# Altium footprint library 野火_EBF6ULL S1 Pro 底板_V1.0_PCB封装_AD格式.PcbLib: 74 footprints (part 1 of 5)
Each footprint in its own frame and in the unit in brackets; x right, y up, seen from the top. Pads: shape width x height; smd on the part's side, far side on the other; paste and mask are expansions set on the pad; w line width, h text height; cw(c..) or ccw(c..) is an arc to the next point about the centre after c.
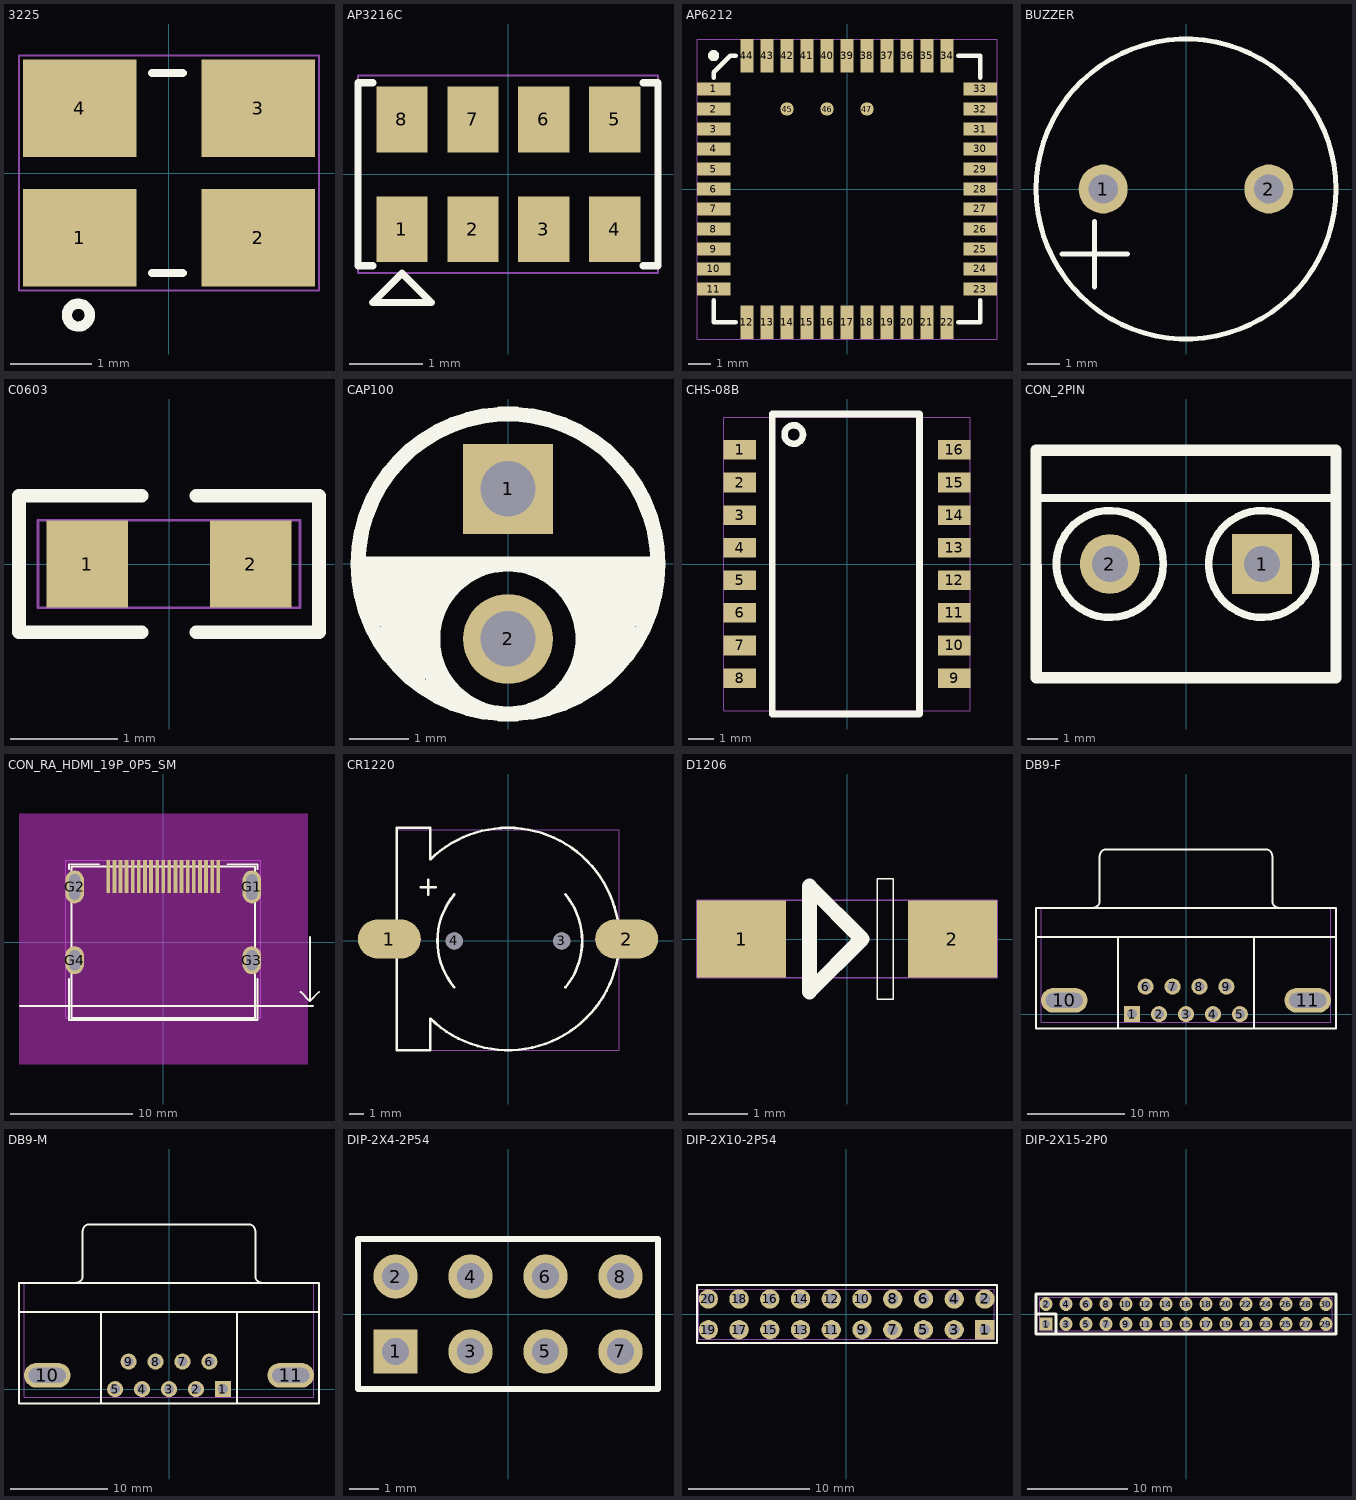
[diagram p0: the footprints below, top view; thin cyan lines are the x and y axes]

## 3225 [mil]
pads (4):
  rect 55.12x47.24 smd mask+1.97: 1(-43.3,-31.5) 2(43.31,-31.5) 3(43.31,31.49) 4(-43.3,31.49)
Top Overlay:
  circle w5: c-44,-69 r5.57
  lines w3.94: -8.3,-48.51 6.7,-48.51 ; -8.3,48.51 6.7,48.51
Top Assembly:
  text "Y2" at -38.93,-25 h50
Mechanical 20:
  lines w1: -72.83,-57.09 72.84,-57.09 72.84,57.08 -72.83,57.08 -72.83,-57.09

## AP3216C [mil]
pads (8):
  rect 27.56x35.43 smd mask+0.98: 1(-57.28,-29.53) 2(-19.09,-29.53) 3(19.09,-29.53) 4(57.28,-29.53) 5(57.28,29.53) 6(19.09,29.53) 7(-19.09,29.53) 8(-57.28,29.53)
Top Overlay:
  lines w3.94: -73.03,-49.21 -80.91,-49.21 -80.91,49.21 -73.03,49.21 ; 72.64,-49.21 80.51,-49.21 80.51,49.21 72.64,49.21 ; -73.03,-68.9 -57.28,-53.15 -41.54,-68.9 -73.03,-68.9
Top Assembly:
  text "U15" at 58.56,25 h50
Mechanical 20:
  lines w1: -80.91,-53.15 -80.91,53.15 80.51,53.15 80.51,-53.15 -80.91,-53.15

## AP6212 [mm]
pads (47):
  rect 1.5x0.6 smd mask+0.05: 1(-6,4.5) 2(-6,3.6) 3(-6,2.7) 4(-6,1.8) 5(-6,0.9) 6(-6,0) 7(-6,-0.9) 8(-6,-1.8) 9(-6,-2.7) 10(-6,-3.6) 11(-6,-4.5) 23(6,-4.5) 24(6,-3.6) 25(6,-2.7) 26(6,-1.8) 27(6,-0.9) 28(6,0) 29(6,0.9) 30(6,1.8) 31(6,2.7) 32(6,3.6) 33(6,4.5)
  rect 0.6x1.5 smd mask+0.05: 12(-4.5,-6) 13(-3.6,-6) 14(-2.7,-6) 15(-1.8,-6) 16(-0.9,-6) 17(0,-6) 18(0.9,-6) 19(1.8,-6) 20(2.7,-6) 21(3.6,-6) 22(4.5,-6) 34(4.5,6) 35(3.6,6) 36(2.7,6) 37(1.8,6) 38(0.9,6) 39(0,6) 40(-0.9,6) 41(-1.8,6) 42(-2.7,6) 43(-3.6,6) 44(-4.5,6)
  round 0.6 smd mask+0.05: 45(-2.7,3.6) 46(-0.9,3.6) 47(0.9,3.6)
Top Overlay:
  circle w0.25: c-6,6 r0.125
  lines w0.2: -6,-5 -6,-6 -5,-6 ; -6,5 -6,5.25 -5.25,6 -5,6 ; 5,-6 6,-6 6,-5 ; 5,6 6,6 6,5
Top Assembly:
  text "U5" at 1.022,0.635 h1.27
Mechanical 20:
  lines w0.025: -6.75,-6.75 -6.75,6.75 6.75,6.75 6.75,-6.75 -6.75,-6.75

## BUZZER [mil]
pads (2):
  round 59.06 hole 35.43 mask+2: 1(-100,0) 2(100,0)
Top Overlay:
  circle w6: c0,0 r181.1
  lines w6: -149.61,-78.74 -70.87,-78.74 ; -110.24,-118.11 -110.24,-39.37
Top Assembly:
  text "PZ1" at 50.47,25 h50
Mechanical 20:
  circle w1: c0,0 r181.1

## C0603 [mil]
pads (2):
  rect 30x32 smd mask+2.5: 1(-30,0) 2(30,0)
Top Overlay:
  lines w5: -10,-25 -55,-25 -55,25 -10,25 ; 10,-25 55,-25 55,25 10,25
Top Assembly:
  text "C99" at -62.61,-25 h50
Mechanical 20:
  lines w1: -48,-16 48,-16 48,16 -48,16 -48,-16

## CAP100 [mil]
pads (2):
  rect 60x60 hole 37 mask+2: 1(0,50)
  round 60 hole 37 mask+2: 2(0,-50)
Top Overlay:
  circle w10: c0,0 r100
  lines w10: -100,0 100,0 ; -90,-40 -90,0 ; -80,-60 -80,-5 ; -70,-70 -70,-5 ; -60,-75 -60,-5 ; -50,-85 -50,0 ; -45,-85 -45,-80 ; -40,-20 -40,0 ; -30,-10 -30,0 ; 35,-10 35,-5 ; 40,-20 40,-5 ; 45,-85 45,-80 ; 50,-85 50,-5 ; 60,-80 60,-5 ; 70,-70 70,-5 ; 80,-60 80,-5 ; 90,-40 90,-5 ; 0,-100 cw(c-0.26,-50) 0,0 cw(c0,-50) 0,-100
Top Assembly:
  text "C97" at -63.8,-25 h50
Mechanical 20:
  circle w1: c0,0 r100

## CHS-08B [mil]
pads (16):
  rect 50x30 smd mask+2.5: 1(-164.37,175) 2(-164.37,125) 3(-164.37,75) 4(-164.37,25) 5(-164.37,-25) 6(-164.37,-75) 7(-164.37,-125) 8(-164.37,-175) 9(164.37,-175) 10(164.37,-125) 11(164.37,-75) 12(164.37,-25) 13(164.37,25) 14(164.37,75) 15(164.37,125) 16(164.37,175)
Top Overlay:
  circle w10: c-81.69,198.62 r14.19
  lines w10: -114.37,-230.12 111.22,-230.12 111.22,230.12 -114.37,230.12 -114.37,-230.12
Top Assembly:
  text "SW5" at -67.73,-25 h50
Mechanical 20:
  lines w1: -189.37,-225 189.37,-225 189.37,225 -189.37,225 -189.37,-225

## CON_2PIN [mm]
pads (2):
  rect 2x2 hole 1.2 mask+0.051: 1(2.54,0)
  round 2 hole 1.2 mask+0.051: 2(-2.54,0)
Top Overlay:
  circle w0.254: c2.54,0 r1.783
  circle w0.254: c-2.54,0 r1.783
  lines w0.254: -5.004,2.2 5.004,2.2
  lines w0.381: -5.004,3.8 5.004,3.8 5.004,-3.8 -5,-3.8 -5.004,3.8
Top Assembly:
  text "J6" at -0.859,-0.635 h1.27
Mechanical 20:
  lines w0.025: -5.004,-3.8 -5.004,3.8 5.004,3.8 5.004,-3.8 -5.004,-3.8

## CON_RA_HDMI_19P_0P5_SM [mil]
pads (23):
  rect 12x106 smd mask+2: 1(177.17,211.61) 2(157.48,211.61) 3(137.8,211.61) 4(118.11,211.61) 5(98.43,211.61) 6(78.74,211.61) 7(59.06,211.61) 8(39.37,211.61) 9(19.69,211.61) 10(0,211.61) 11(-19.69,211.61) 12(-39.37,211.61) 13(-59.06,211.61) 14(-78.74,211.61) 15(-98.43,211.61) 16(-118.11,211.61) 17(-137.8,211.61) 18(-157.48,211.61) 19(-177.17,211.61)
  oval 59x106 hole 35 slot 83 at 90 deg mask+2: G1(285.43,178.15) G2(-285.43,178.15)
  oval 59x90 hole 35 slot 66 at 90 deg mask+2: G3(285.43,-58.07) G4(-285.43,-58.07)
Top Layer keep-out:
  region: -464.93,-394.09 -464.93,414.61 464.93,414.61 464.93,-394.09
Top Overlay:
  lines w6: -462.6,-205.71 285.43,-205.71 482.28,-205.71 ; -303.26,-118.11 -303.26,-251.09 303.26,-251.09 303.26,-118.11 ; -303.26,236.22 -303.26,251.09 -206.69,251.09 ; 206.69,251.09 303.26,251.09 303.26,236.22 ; 442.91,-160.43 472.44,-189.96 ; 472.44,16.73 472.44,-189.96 ; 501.97,-160.43 472.44,-189.96 ; -296.26,-244.09 296.26,-244.09 296.26,244.09 -296.26,244.09 -296.26,-244.09
Top Assembly:
  text "J1001" at -87.13,-25 h50
Mechanical 20:
  lines w1: -314.93,-244.09 314.93,-244.09 314.93,264.61 -314.93,264.61 -314.93,-244.09

## CR1220 [mil]
pads (4):
  oval 169.29x106.3 smd mask+1.97: 1(-320,5) 2(320,5)
  round 46 hole 46 unplated mask+2: 3(145,0) 4(-145,0)
Top Overlay:
  lines w7: -235,145 -195,145 ; -215,125 -215,165 ; -209.62,-209.61 -210,-295 -300,-295 -300,5 -300,305 -210,305 -209.62,219.61 ; -209.52,-209.7 ccw(c0,5) 298.19,-27.92 ; -209.52,219.71 cw(c0,5.01) 0,305 cw(c0,5) 298.19,37.92 ; -145.23,-124.72 cw(c5,0) -145.01,124.99 ; 155.01,-124.99 ccw(c5,0) 155.01,124.98
Top Assembly:
  text "CN3" at -65.11,-25 h50
Mechanical 20:
  lines w1: -300,-295 300,-295 300,300 -300,300 -300,-295

## D1206 [mil]
pads (2):
  rect 59.06x51.18 smd mask+2: 1(-70,0) 2(70,0)
Top Overlay:
  lines w1: 20,-40 30.75,-40 30.75,40 20,40 20,-40
  lines w10: -25,-35 -25,35 10,0 -25,-35
Top Assembly:
  text "D10" at -57.25,-25 h50
Mechanical 20:
  lines w1: -99.53,-25.59 -99.53,25.59 99.53,25.59 99.53,-25.59 -99.53,-25.59

## DB9-F [mil]
pads (11):
  rect 65x65 hole 40 mask+2: 1(-218.11,0)
  round 65 hole 40 mask+2: 2(-109.06,0) 3(0,0) 4(109.06,0) 5(218.11,0) 6(-163.58,111.81) 7(-54.53,111.81) 8(54.53,111.81) 9(163.58,111.81)
  oval 188x100 hole 60 slot 150 at 0 deg mask+2: 10(-491.93,55.91) 11(491.93,55.9)
Top Overlay:
  lines w7.87: -606.3,311.81 606.3,311.81 ; -376.38,430.12 ccw(c-376.38,457.48) -349.02,457.48 -348.82,638.78 cw(c-321.46,638.78) -321.46,666.14 321.46,666.14 cw(c321.46,638.78) 348.82,638.78 349.02,457.48 ccw(c376.38,457.48) 376.38,430.12 ; -275.59,-58.27 -275.59,311.81 ; 275.59,-58.27 275.59,311.81 ; -606.3,-58.27 -606.3,429.92 606.3,429.92 606.3,-58.27 -606.3,-58.27
Top Assembly:
  text "CON1" at -79.27,-25 h50
Mechanical 20:
  lines w1: -585.63,-32.5 -585.63,429.92 585.63,429.92 585.63,-32.5 -585.63,-32.5

## DB9-M [mil]
pads (11):
  rect 65x65 hole 40 mask+2: 1(218.11,0)
  round 65 hole 40 mask+2: 2(109.06,0) 3(0,0) 4(-109.06,0) 5(-218.11,0) 6(163.58,111.81) 7(54.53,111.81) 8(-54.53,111.81) 9(-163.58,111.81)
  oval 188x100 hole 60 slot 150 at 0 deg mask+2: 10(-491.93,55.91) 11(491.93,55.9)
Top Overlay:
  lines w7.87: -606.3,311.81 606.3,311.81 ; -376.38,430.12 ccw(c-376.38,457.48) -349.02,457.48 -348.82,638.78 cw(c-321.46,638.78) -321.46,666.14 321.46,666.14 cw(c321.46,638.78) 348.82,638.78 349.02,457.48 ccw(c376.38,457.48) 376.38,430.12 ; -275.59,-58.27 -275.59,311.81 ; 275.59,-58.27 275.59,311.81 ; -606.3,-58.27 -606.3,429.92 606.3,429.92 606.3,-58.27 -606.3,-58.27
Top Assembly:
  text "CON2" at -89.99,-25 h50
Mechanical 20:
  lines w1: -585.63,-32.5 -585.63,429.92 585.63,429.92 585.63,-32.5 -585.63,-32.5

## DIP-2X4-2P54 [mil]
pads (8):
  rect 59.06x59.06 hole 35.43 mask+2: 1(-150,-50)
  round 59.06 hole 35.43 mask+2: 2(-150,50) 3(-50,-50) 4(-50,50) 5(50,-50) 6(50,50) 7(150,-50) 8(150,50)
Top Overlay:
  lines w8.66: -189.37,100 -200,100 ; -200,100 -200,-100 200,-100 200,100 -200,100
Top Assembly:
  text "J8" at 35,25 h50
Mechanical 20:
  lines w1: -200,-100 200,-100 200,100 -200,100 -200,-100

## DIP-2X10-2P54 [mil]
pads (20):
  rect 62.99x62.99 hole 35.43 mask+2: 1(451.57,-50)
  round 62.99 hole 35.43 mask+2: 2(451.57,50) 3(351.57,-50) 4(351.57,50) 5(251.57,-50) 6(251.57,50) 7(151.57,-50) 8(151.57,50) 9(51.57,-50) 10(51.57,50) 11(-48.43,-50) 12(-48.43,50) 13(-148.43,-50) 14(-148.43,50) 15(-248.43,-50) 16(-248.43,50) 17(-348.43,-50) 18(-348.43,50) 19(-448.43,-50) 20(-448.43,50)
Top Overlay:
  lines w5.91: -485.43,-93.31 490.94,-93.31 490.94,95.67 -485.43,95.67 -485.43,-93.31
Top Assembly:
  text "J21" at 46.54,25 h50
Mechanical 20:
  lines w1: -479.92,-81.5 481.5,-81.5 481.5,81.49 -479.92,81.49 -479.92,-81.5

## DIP-2X15-2P0 [mil]
pads (30):
  rect 50x50 hole 32 mask+2: 1(-551.18,-39.37)
  oval 50x55 hole 32 mask+2: 2(-551.18,39.37) 3(-472.44,-39.37) 4(-472.44,39.37) 5(-393.7,-39.37) 6(-393.7,39.37) 7(-314.96,-39.37) 8(-314.96,39.37) 9(-236.22,-39.37) 10(-236.22,39.37) 11(-157.48,-39.37) 12(-157.48,39.37) 13(-78.74,-39.37) 14(-78.74,39.37) 15(0,-39.37) 16(0,39.37) 17(78.74,-39.37) 18(78.74,39.37) 19(157.48,-39.37) 20(157.48,39.37) 21(236.22,-39.37) 22(236.22,39.37) 23(314.96,-39.37) 24(314.96,39.37) 25(393.7,-39.37) 26(393.7,39.37) 27(472.44,-39.37) 28(472.44,39.37) 29(551.18,-39.37) 30(551.18,39.37)
Top Overlay:
  lines w10: -590.55,0 -511.81,0 -511.81,-78.74 ; -590.55,-78.74 -590.55,78.74 590.55,78.74 590.55,-78.74 -590.55,-78.74
Top Assembly:
  text "J38" at 57.25,25 h50
Mechanical 20:
  lines w1: -576.18,-66.87 -576.18,66.87 576.18,66.87 576.18,-66.87 -576.18,-66.87